# EAGLE library part ATMEGA328 (library AVR)
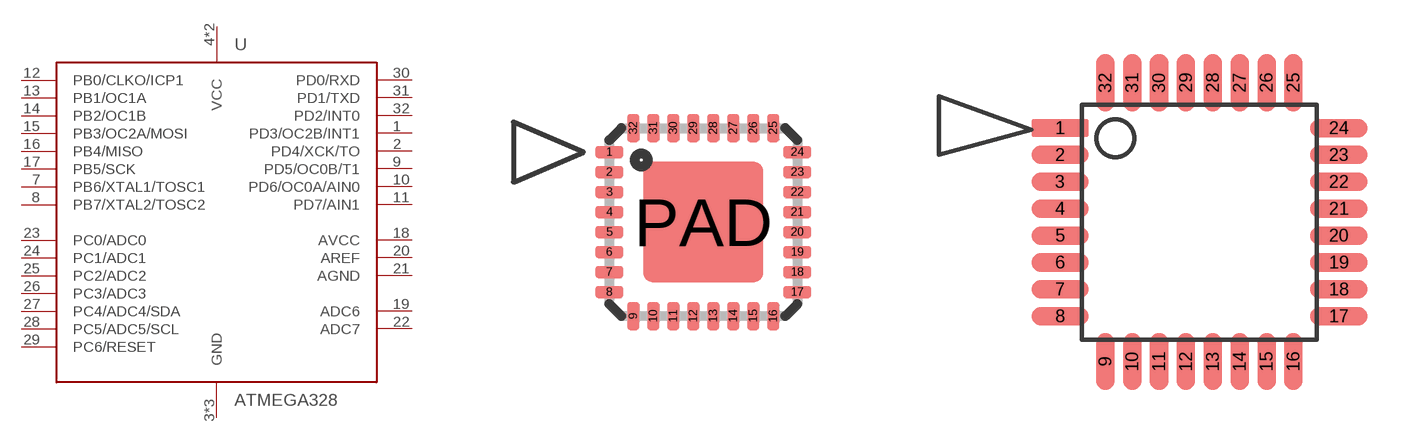
[diagram p1: symbol with the pads of MLF32; footprints MLF32, LQFP32-7X7]

Designator prefix U

## ATMEGA328-MU (MF: MICROCHIP; MPN: ATMEGA328-MU), ATMEGA328P-MU (MF: MICROCHIP; MPN: ATMEGA328P-MU), ATMEGA328PB-MU (MF: MICROCHIP; MPN: ATMEGA328PB-MU)  [MLF32]
1  PD3/OC2B/INT1
2  PD4/XCK/TO
3  GND  pwr
4  VCC  pwr
5  GND  pwr
6  VCC  pwr
7  PB6/XTAL1/TOSC1
8  PB7/XTAL2/TOSC2
9  PD5/OC0B/T1
10  PD6/OC0A/AIN0
11  PD7/AIN1
12  PB0/CLKO/ICP1
13  PB1/OC1A
14  PB2/OC1B
15  PB3/OC2A/MOSI
16  PB4/MISO
17  PB5/SCK
18  AVCC  pwr
19  ADC6  in
20  AREF  in
21  AGND  pwr
22  ADC7  in
23  PC0/ADC0
24  PC1/ADC1
25  PC2/ADC2
26  PC3/ADC3
27  PC4/ADC4/SDA
28  PC5/ADC5/SCL
29  PC6/RESET
30  PD0/RXD
31  PD1/TXD
32  PD2/INT0
PAD  GND  pwr

## ATMEGA328-AU (MF: MICROCHIP; MPN: ATMEGA328-AU), ATMEGA328P-AU (MF: MICROCHIP; MPN: ATMEGA328P-AU), ATMEGA328PB-AU (MF: MICROCHIP; MPN: ATMEGA328PB-AU)  [LQFP32-7X7]
1  PD3/OC2B/INT1
2  PD4/XCK/TO
3  GND  pwr
4  VCC  pwr
5  GND  pwr
6  VCC  pwr
7  PB6/XTAL1/TOSC1
8  PB7/XTAL2/TOSC2
9  PD5/OC0B/T1
10  PD6/OC0A/AIN0
11  PD7/AIN1
12  PB0/CLKO/ICP1
13  PB1/OC1A
14  PB2/OC1B
15  PB3/OC2A/MOSI
16  PB4/MISO
17  PB5/SCK
18  AVCC  pwr
19  ADC6  in
20  AREF  in
21  AGND  pwr
22  ADC7  in
23  PC0/ADC0
24  PC1/ADC1
25  PC2/ADC2
26  PC3/ADC3
27  PC4/ADC4/SDA
28  PC5/ADC5/SCL
29  PC6/RESET
30  PD0/RXD
31  PD1/TXD
32  PD2/INT0

## Footprint MLF32 (pad centres in mm)
32M1-A Micro Lead Frame package (MLF)
smd 0.7 x 0.3: 1 -2.35,1.75; 2 -2.35,1.25; 3 -2.35,0.75; 4 -2.35,0.25; 5 -2.35,-0.25; 6 -2.35,-0.75; 7 -2.35,-1.25; 8 -2.35,-1.75; 17 2.35,-1.75; 18 2.35,-1.25; 19 2.35,-0.75; 20 2.35,-0.25; 21 2.35,0.25; 22 2.35,0.75; 23 2.35,1.25; 24 2.35,1.75
smd 0.3 x 0.7: 9 -1.75,-2.35; 10 -1.25,-2.35; 11 -0.75,-2.35; 12 -0.25,-2.35; 13 0.25,-2.35; 14 0.75,-2.35; 15 1.25,-2.35; 16 1.75,-2.35; 25 1.75,2.35; 26 1.25,2.35; 27 0.75,2.35; 28 0.25,2.35; 29 -0.25,2.35; 30 -0.75,2.35; 31 -1.25,2.35; 32 -1.75,2.35
smd 3 x 3: PAD 0,0

## Footprint LQFP32-7X7 (pad centres in mm)
smd 1.7 x 0.55: 1 -4.15,2.8; 2 -4.15,2; 3 -4.15,1.2; 4 -4.15,0.4; 5 -4.15,-0.4; 6 -4.15,-1.2; 7 -4.15,-2; 8 -4.15,-2.8; 17 4.15,-2.8; 18 4.15,-2; 19 4.15,-1.2; 20 4.15,-0.4; 21 4.15,0.4; 22 4.15,1.2; 23 4.15,2; 24 4.15,2.8
smd 0.55 x 1.7: 9 -2.8,-4.15; 10 -2,-4.15; 11 -1.2,-4.15; 12 -0.4,-4.15; 13 0.4,-4.15; 14 1.2,-4.15; 15 2,-4.15; 16 2.8,-4.15; 25 2.8,4.15; 26 2,4.15; 27 1.2,4.15; 28 0.4,4.15; 29 -0.4,4.15; 30 -1.2,4.15; 31 -2,4.15; 32 -2.8,4.15